# EAGLE library part CX20921 (library CHIP_PRO_Dev-Kit)
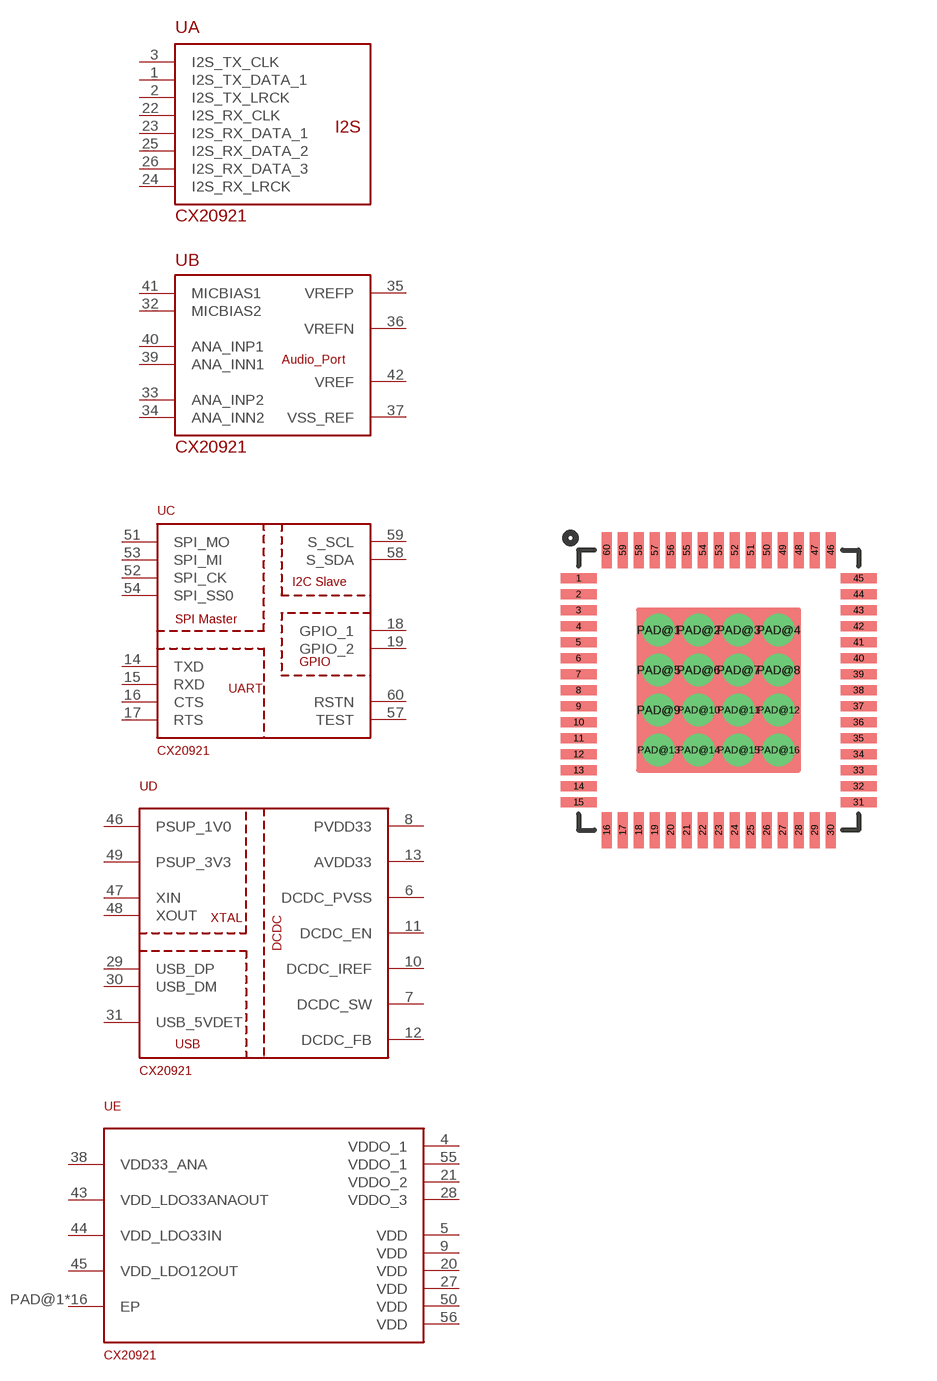
[diagram p7: symbol with the pads of QFN-60; footprint QFN-60]

Designator prefix -; gates A=CX20921_A B=CX20921_B C=CX20921_C E=CX20921_E D=CX20921_D

## CX20921  [QFN-60]
1  A:I2S_TX_DATA_1
2  A:I2S_TX_LRCK
3  A:I2S_TX_CLK
4  E:VDDO_1
5  E:VDD
6  D:DCDC_PVSS
7  D:DCDC_SW
8  D:PVDD33
9  E:VDD
10  D:DCDC_IREF
11  D:DCDC_EN
12  D:DCDC_FB
13  D:AVDD33
14  C:TXD
15  C:RXD
16  C:CTS
17  C:RTS
18  C:GPIO_1
19  C:GPIO_2
20  E:VDD
21  E:VDDO_2
22  A:I2S_RX_CLK
23  A:I2S_RX_DATA_1
24  A:I2S_RX_LRCK
25  A:I2S_RX_DATA_2
26  A:I2S_RX_DATA_3
27  E:VDD
28  E:VDDO_3
29  D:USB_DP
30  D:USB_DM
31  D:USB_5VDET
32  B:MICBIAS2
33  B:ANA_INP2
34  B:ANA_INN2
35  B:VREFP
36  B:VREFN
37  B:VSS_REF
38  E:VDD33_ANA
39  B:ANA_INN1
40  B:ANA_INP1
41  B:MICBIAS1
42  B:VREF
43  E:VDD_LDO33ANAOUT
44  E:VDD_LDO33IN
45  E:VDD_LDO12OUT
46  D:PSUP_1V0
47  D:XIN
48  D:XOUT
49  D:PSUP_3V3
50  E:VDD
51  C:SPI_MO
52  C:SPI_CK
53  C:SPI_MI
54  C:SPI_SS0
55  E:VDDO_1
56  E:VDD
57  C:TEST
58  C:S_SDA
59  C:S_SCL
60  C:RSTN
PAD@1  E:EP
PAD@2  E:EP
PAD@3  E:EP
PAD@4  E:EP
PAD@5  E:EP
PAD@6  E:EP
PAD@7  E:EP
PAD@8  E:EP
PAD@9  E:EP
PAD@10  E:EP
PAD@11  E:EP
PAD@12  E:EP
PAD@13  E:EP
PAD@14  E:EP
PAD@15  E:EP
PAD@16  E:EP

## Footprint QFN-60 (pad centres in mm)
smd 0.9 x 0.25: 1 -3.5,2.8; 2 -3.5,2.4; 3 -3.5,2; 4 -3.5,1.6; 5 -3.5,1.2; 6 -3.5,0.8; 7 -3.5,0.4; 8 -3.5,0; 9 -3.5,-0.4; 10 -3.5,-0.8; 11 -3.5,-1.2; 12 -3.5,-1.6; 13 -3.5,-2; 14 -3.5,-2.4; 15 -3.5,-2.8; 31 3.5,-2.8; 32 3.5,-2.4; 33 3.5,-2; 34 3.5,-1.6; 35 3.5,-1.2; 36 3.5,-0.8; 37 3.5,-0.4; 38 3.5,0; 39 3.5,0.4; 40 3.5,0.8; 41 3.5,1.2; 42 3.5,1.6; 43 3.5,2; 44 3.5,2.4; 45 3.5,2.8
smd 0.25 x 0.9: 16 -2.8,-3.5; 17 -2.4,-3.5; 18 -2,-3.5; 19 -1.6,-3.5; 20 -1.2,-3.5; 21 -0.8,-3.5; 22 -0.4,-3.5; 23 0,-3.5; 24 0.4,-3.5; 25 0.8,-3.5; 26 1.2,-3.5; 27 1.6,-3.5; 28 2,-3.5; 29 2.4,-3.5; 30 2.8,-3.5; 46 2.8,3.5; 47 2.4,3.5; 48 2,3.5; 49 1.6,3.5; 50 1.2,3.5; 51 0.8,3.5; 52 0.4,3.5; 53 0,3.5; 54 -0.4,3.5; 55 -0.8,3.5; 56 -1.2,3.5; 57 -1.6,3.5; 58 -2,3.5; 59 -2.4,3.5; 60 -2.8,3.5
drill 0.305: PAD@1 -1.5,1.5; PAD@2 -0.5,1.5; PAD@3 0.5,1.5; PAD@4 1.5,1.5; PAD@5 -1.5,0.5; PAD@6 -0.5,0.5; PAD@7 0.5,0.5; PAD@8 1.5,0.5; PAD@9 -1.5,-0.5; PAD@10 -0.5,-0.5; PAD@11 0.5,-0.5; PAD@12 1.5,-0.5; PAD@13 -1.5,-1.5; PAD@14 -0.5,-1.5; PAD@15 0.5,-1.5; PAD@16 1.5,-1.5